# Altium integrated library INDUCTOR-5.0mmX4.5mm.IntLib: 115 symbols (part 1 of 2)
Pins are listed as number, name and electrical type; pins without a type are passive.

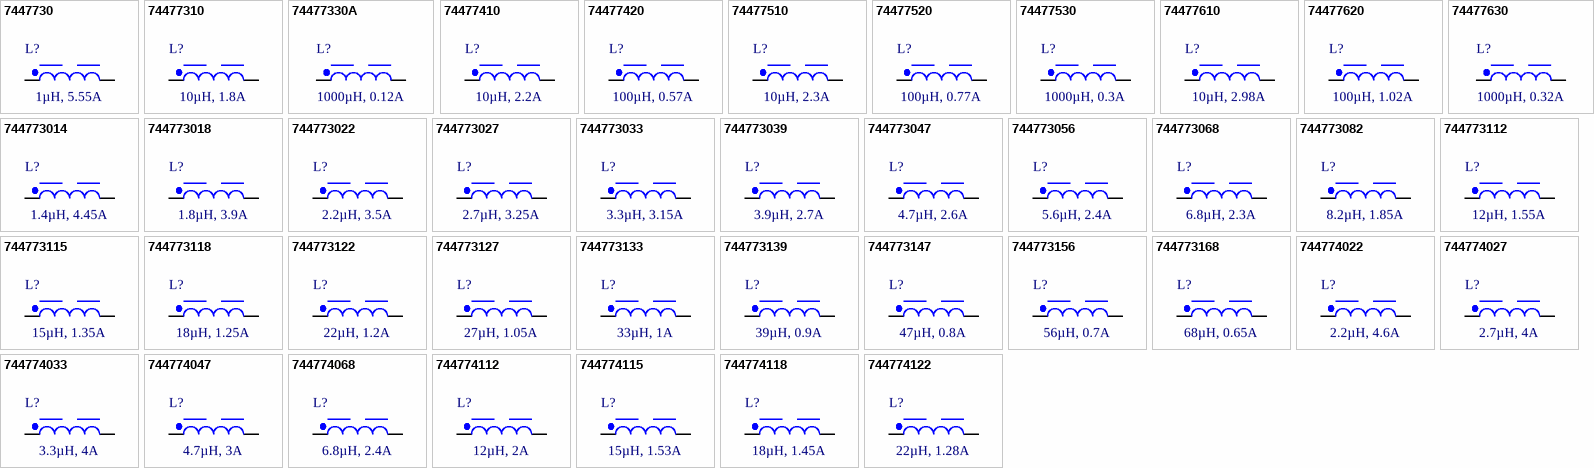
[diagram p0: symbols 7447730 to 744774122]

## 7447730
designator L?, comment 1µH, 5.55A
WE-PD2 SMT Power Inductor, size 4532, 1µH, 5.55A, 0.014Ω; Manufacturer Part Number: 7447730; Manufacturer: Wurth Elektronik; Case/Size Code: 4532; Saturation Current @ 10%: 5.72A; Saturation Current @ 30%: 6.6A; Self Resonant Frequency: 110MHz; Category: Power Inductors; Match Code: WE-PD2; ComponentLink1Description: Website Link; ComponentLink1URL: https://www.we-online.com/redexpert/article/7447730?ad; ComponentLink2Description: Datasheet Link; ComponentLink2URL: https://www.we-online.com/redexpert/spec/7447730?ad; Mount: Surface Mount; Min Operating Temperature: -40°C; Max Operating Temperature: 125°C; Packaging: Tape and Reel; Length: 4.5mm; Width: 4mm; Height: 3.2mm; DC Resistance Max: 0.014Ω; Inductance: 1µH; Rated Current: 5.55A
footprint WE-PD2_4532
simulation model 4532_7447730_1u
pins: 1, 2

## 74477310
designator L?, comment 10µH, 1.8A
WE-PD2 SMT Power Inductor, size 4532, 10µH, 1.8A, 0.118Ω; Manufacturer Part Number: 74477310; Manufacturer: Wurth Elektronik; Case/Size Code: 4532; Saturation Current @ 10%: 1.74A; Saturation Current @ 30%: 2A; Self Resonant Frequency: 37MHz; Category: Power Inductors; Match Code: WE-PD2; ComponentLink1Description: Website Link; ComponentLink1URL: https://www.we-online.com/redexpert/article/74477310?ad; ComponentLink2Description: Datasheet Link; ComponentLink2URL: https://www.we-online.com/redexpert/spec/74477310?ad; Mount: Surface Mount; Min Operating Temperature: -40°C; Max Operating Temperature: 125°C; Packaging: Tape and Reel; Length: 4.5mm; Width: 4mm; Height: 3.2mm; DC Resistance Max: 0.118Ω; Inductance: 10µH; Rated Current: 1.8A
footprint WE-PD2_4532
simulation model 4532_74477310_10u
pins: 1, 2

## 74477330A
designator L?, comment 1000µH, 0.12A
WE-PD2 SMT Power Inductor, size 4532, 1000µH, 0.12A, 12.5Ω; Manufacturer Part Number: 74477330A; Manufacturer: Wurth Elektronik; Case/Size Code: 4532; Saturation Current @ 10%: 0.18A; Self Resonant Frequency: 3.5MHz; Category: Power Inductors; Match Code: WE-PD2; ComponentLink1Description: Website Link; ComponentLink1URL: https://www.we-online.com/redexpert/article/74477330A?ad; ComponentLink2Description: Datasheet Link; ComponentLink2URL: https://www.we-online.com/redexpert/spec/74477330A?ad; Mount: Surface Mount; Min Operating Temperature: -40°C; Max Operating Temperature: 125°C; Packaging: Tape and Reel; Length: 4.5mm; Width: 4mm; Height: 3.2mm; DC Resistance Max: 12.5Ω; Inductance: 1000µH; Rated Current: 0.12A
footprint WE-PD2_4532
simulation model 4532_74477330A_1000u
pins: 1, 2

## 74477410
designator L?, comment 10µH, 2.2A
WE-PD2 SMT Power Inductor, size 5848, 10µH, 2.2A, 0.078Ω; Manufacturer Part Number: 74477410; Manufacturer: Wurth Elektronik; Case/Size Code: 5848; Saturation Current @ 10%: 2.5A; Self Resonant Frequency: 26MHz; Category: Power Inductors; Match Code: WE-PD2; ComponentLink1Description: Website Link; ComponentLink1URL: https://www.we-online.com/redexpert/article/74477410?ad; ComponentLink2Description: Datasheet Link; ComponentLink2URL: https://www.we-online.com/redexpert/spec/74477410?ad; Mount: Surface Mount; Min Operating Temperature: -40°C; Max Operating Temperature: 125°C; Packaging: Tape and Reel; Length: 5.8mm; Width: 5.2mm; Height: 4.5mm; DC Resistance Max: 0.078Ω; Inductance: 10µH; Rated Current: 2.2A
footprint WE-PD2_5848
simulation model 5848_74477410_10u
pins: 1, 2

## 74477420
designator L?, comment 100µH, 0.57A
WE-PD2 SMT Power Inductor, size 5848, 100µH, 0.57A, 0.51Ω; Manufacturer Part Number: 74477420; Manufacturer: Wurth Elektronik; Case/Size Code: 5848; Saturation Current @ 10%: 0.68A; Self Resonant Frequency: 7.5MHz; Category: Power Inductors; Match Code: WE-PD2; ComponentLink1Description: Website Link; ComponentLink1URL: https://www.we-online.com/redexpert/article/74477420?ad; ComponentLink2Description: Datasheet Link; ComponentLink2URL: https://www.we-online.com/redexpert/spec/74477420?ad; Mount: Surface Mount; Min Operating Temperature: -40°C; Max Operating Temperature: 125°C; Packaging: Tape and Reel; Length: 5.8mm; Width: 5.2mm; Height: 4.5mm; DC Resistance Max: 0.51Ω; Inductance: 100µH; Rated Current: 0.57A
footprint WE-PD2_5848
simulation model 5848_74477420_100u
pins: 1, 2

## 74477510
designator L?, comment 10µH, 2.3A
WE-PD2 SMT Power Inductor, size 7850, 10µH, 2.3A, 0.044Ω; Manufacturer Part Number: 74477510; Manufacturer: Wurth Elektronik; Case/Size Code: 7850; Saturation Current @ 10%: 2.95A; Self Resonant Frequency: 28MHz; Category: Power Inductors; Match Code: WE-PD2; ComponentLink1Description: Website Link; ComponentLink1URL: https://www.we-online.com/redexpert/article/74477510?ad; ComponentLink2Description: Datasheet Link; ComponentLink2URL: https://www.we-online.com/redexpert/spec/74477510?ad; Mount: Surface Mount; Min Operating Temperature: -40°C; Max Operating Temperature: 125°C; Packaging: Tape and Reel; Length: 7.8mm; Width: 7mm; Height: 4.95mm; DC Resistance Max: 0.044Ω; Inductance: 10µH; Rated Current: 2.3A
footprint WE-PD2_7850
simulation model 7850_74477510_10u
pins: 1, 2

## 74477520
designator L?, comment 100µH, 0.77A
WE-PD2 SMT Power Inductor, size 7850, 100µH, 0.77A, 0.208Ω; Manufacturer Part Number: 74477520; Manufacturer: Wurth Elektronik; Case/Size Code: 7850; Saturation Current @ 10%: 0.86A; Self Resonant Frequency: 8MHz; Category: Power Inductors; Match Code: WE-PD2; ComponentLink1Description: Website Link; ComponentLink1URL: https://www.we-online.com/redexpert/article/74477520?ad; ComponentLink2Description: Datasheet Link; ComponentLink2URL: https://www.we-online.com/redexpert/spec/74477520?ad; Mount: Surface Mount; Min Operating Temperature: -40°C; Max Operating Temperature: 125°C; Packaging: Tape and Reel; Length: 7.8mm; Width: 7mm; Height: 4.95mm; DC Resistance Max: 0.208Ω; Inductance: 100µH; Rated Current: 0.77A
footprint WE-PD2_7850
simulation model 7850_74477520_100u
pins: 1, 2

## 74477530
designator L?, comment 1000µH, 0.3A
WE-PD2 SMT Power Inductor, size 7850, 1000µH, 0.3A, 2.78Ω; Manufacturer Part Number: 74477530; Manufacturer: Wurth Elektronik; Case/Size Code: 7850; Self Resonant Frequency: 2.4MHz; Category: Power Inductors; Match Code: WE-PD2; ComponentLink1Description: Website Link; ComponentLink1URL: https://www.we-online.com/redexpert/article/74477530?ad; ComponentLink2Description: Datasheet Link; ComponentLink2URL: https://www.we-online.com/redexpert/spec/74477530?ad; Mount: Surface Mount; Min Operating Temperature: -40°C; Max Operating Temperature: 125°C; Packaging: Tape and Reel; Length: 7.8mm; Width: 7mm; Height: 4.95mm; DC Resistance Max: 2.78Ω; Inductance: 1000µH; Rated Current: 0.3A; Saturation Current @ 10%: 0.3A
footprint WE-PD2_7850
simulation model 7850_74477530_1m
pins: 1, 2

## 74477610
designator L?, comment 10µH, 2.98A
WE-PD2 SMT Power Inductor, size 1054, 10µH, 2.98A, 0.028Ω; Manufacturer Part Number: 74477610; Manufacturer: Wurth Elektronik; Case/Size Code: 1054; Saturation Current @ 10%: 3.24A; Self Resonant Frequency: 24MHz; Category: Power Inductors; Match Code: WE-PD2; ComponentLink1Description: Website Link; ComponentLink1URL: https://www.we-online.com/redexpert/article/74477610?ad; ComponentLink2Description: Datasheet Link; ComponentLink2URL: https://www.we-online.com/redexpert/spec/74477610?ad; Mount: Surface Mount; Min Operating Temperature: -40°C; Max Operating Temperature: 125°C; Packaging: Tape and Reel; Length: 10mm; Width: 9mm; Height: 5.4mm; DC Resistance Max: 0.028Ω; Inductance: 10µH; Rated Current: 2.98A
footprint WE-PD2_1054
simulation model 1054_74477610_10u
pins: 1, 2

## 74477620
designator L?, comment 100µH, 1.02A
WE-PD2 SMT Power Inductor, size 1054, 100µH, 1.02A, 0.2Ω; Manufacturer Part Number: 74477620; Manufacturer: Wurth Elektronik; Case/Size Code: 1054; Saturation Current @ 10%: 1.1A; Self Resonant Frequency: 7.5MHz; Category: Power Inductors; Match Code: WE-PD2; ComponentLink1Description: Website Link; ComponentLink1URL: https://www.we-online.com/redexpert/article/74477620?ad; ComponentLink2Description: Datasheet Link; ComponentLink2URL: https://www.we-online.com/redexpert/spec/74477620?ad; Mount: Surface Mount; Min Operating Temperature: -40°C; Max Operating Temperature: 125°C; Packaging: Tape and Reel; Length: 10mm; Width: 9mm; Height: 5.4mm; DC Resistance Max: 0.2Ω; Inductance: 100µH; Rated Current: 1.02A
footprint WE-PD2_1054
simulation model 1054_74477620_100u
pins: 1, 2

## 74477630
designator L?, comment 1000µH, 0.32A
WE-PD2 SMT Power Inductor, size 1054, 1000µH, 0.32A, 2.2Ω; Manufacturer Part Number: 74477630; Manufacturer: Wurth Elektronik; Case/Size Code: 1054; Saturation Current @ 10%: 0.38A; Self Resonant Frequency: 2.3MHz; Category: Power Inductors; Match Code: WE-PD2; ComponentLink1Description: Website Link; ComponentLink1URL: https://www.we-online.com/redexpert/article/74477630?ad; ComponentLink2Description: Datasheet Link; ComponentLink2URL: https://www.we-online.com/redexpert/spec/74477630?ad; Mount: Surface Mount; Min Operating Temperature: -40°C; Max Operating Temperature: 125°C; Packaging: Tape and Reel; Length: 10mm; Width: 9mm; Height: 5.4mm; DC Resistance Max: 2.2Ω; Inductance: 1000µH; Rated Current: 0.32A
footprint WE-PD2_1054
simulation model 1054_74477630_1m
pins: 1, 2

## 744773014
designator L?, comment 1.4µH, 4.45A
WE-PD2 SMT Power Inductor, size 4532, 1.4µH, 4.45A, 0.022Ω; Manufacturer Part Number: 744773014; Manufacturer: Wurth Elektronik; Case/Size Code: 4532; Saturation Current @ 10%: 5.04A; Saturation Current @ 30%: 5.8A; Self Resonant Frequency: 103MHz; Category: Power Inductors; Match Code: WE-PD2; ComponentLink1Description: Website Link; ComponentLink1URL: https://www.we-online.com/redexpert/article/744773014?ad; ComponentLink2Description: Datasheet Link; ComponentLink2URL: https://www.we-online.com/redexpert/spec/744773014?ad; Mount: Surface Mount; Min Operating Temperature: -40°C; Max Operating Temperature: 125°C; Packaging: Tape and Reel; Length: 4.5mm; Width: 4mm; Height: 3.2mm; DC Resistance Max: 0.022Ω; Inductance: 1.4µH; Rated Current: 4.45A
footprint WE-PD2_4532
simulation model 4532_744773014_1.4u
pins: 1, 2

## 744773018
designator L?, comment 1.8µH, 3.9A
WE-PD2 SMT Power Inductor, size 4532, 1.8µH, 3.9A, 0.028Ω; Manufacturer Part Number: 744773018; Manufacturer: Wurth Elektronik; Case/Size Code: 4532; Saturation Current @ 10%: 4.4A; Saturation Current @ 30%: 5.1A; Self Resonant Frequency: 95MHz; Category: Power Inductors; Match Code: WE-PD2; ComponentLink1Description: Website Link; ComponentLink1URL: https://www.we-online.com/redexpert/article/744773018?ad; ComponentLink2Description: Datasheet Link; ComponentLink2URL: https://www.we-online.com/redexpert/spec/744773018?ad; Mount: Surface Mount; Min Operating Temperature: -40°C; Max Operating Temperature: 125°C; Packaging: Tape and Reel; Length: 4.5mm; Width: 4mm; Height: 3.2mm; DC Resistance Max: 0.028Ω; Inductance: 1.8µH; Rated Current: 3.9A
footprint WE-PD2_4532
simulation model 4532_744773018_1.8u
pins: 1, 2

## 744773022
designator L?, comment 2.2µH, 3.5A
WE-PD2 SMT Power Inductor, size 4532, 2.2µH, 3.5A, 0.034Ω; Manufacturer Part Number: 744773022; Manufacturer: Wurth Elektronik; Case/Size Code: 4532; Saturation Current @ 10%: 4.1A; Saturation Current @ 30%: 4.7A; Self Resonant Frequency: 85MHz; Category: Power Inductors; Match Code: WE-PD2; ComponentLink1Description: Website Link; ComponentLink1URL: https://www.we-online.com/redexpert/article/744773022?ad; ComponentLink2Description: Datasheet Link; ComponentLink2URL: https://www.we-online.com/redexpert/spec/744773022?ad; Mount: Surface Mount; Min Operating Temperature: -40°C; Max Operating Temperature: 125°C; Packaging: Tape and Reel; Length: 4.5mm; Width: 4mm; Height: 3.2mm; DC Resistance Max: 0.034Ω; Inductance: 2.2µH; Rated Current: 3.5A
footprint WE-PD2_4532
simulation model 4532_744773022_2.2u
pins: 1, 2

## 744773027
designator L?, comment 2.7µH, 3.25A
WE-PD2 SMT Power Inductor, size 4532, 2.7µH, 3.25A, 0.039Ω; Manufacturer Part Number: 744773027; Manufacturer: Wurth Elektronik; Case/Size Code: 4532; Saturation Current @ 10%: 3.5A; Saturation Current @ 30%: 4.05A; Self Resonant Frequency: 72MHz; Category: Power Inductors; Match Code: WE-PD2; ComponentLink1Description: Website Link; ComponentLink1URL: https://www.we-online.com/redexpert/article/744773027?ad; ComponentLink2Description: Datasheet Link; ComponentLink2URL: https://www.we-online.com/redexpert/spec/744773027?ad; Mount: Surface Mount; Min Operating Temperature: -40°C; Max Operating Temperature: 125°C; Packaging: Tape and Reel; Length: 4.5mm; Width: 4mm; Height: 3.2mm; DC Resistance Max: 0.039Ω; Inductance: 2.7µH; Rated Current: 3.25A
footprint WE-PD2_4532
simulation model 4532_744773027_2.7u
pins: 1, 2

## 744773033
designator L?, comment 3.3µH, 3.15A
WE-PD2 SMT Power Inductor, size 4532, 3.3µH, 3.15A, 0.041Ω; Manufacturer Part Number: 744773033; Manufacturer: Wurth Elektronik; Case/Size Code: 4532; Saturation Current @ 10%: 3.3A; Saturation Current @ 30%: 3.8A; Self Resonant Frequency: 65MHz; Category: Power Inductors; Match Code: WE-PD2; ComponentLink1Description: Website Link; ComponentLink1URL: https://www.we-online.com/redexpert/article/744773033?ad; ComponentLink2Description: Datasheet Link; ComponentLink2URL: https://www.we-online.com/redexpert/spec/744773033?ad; Mount: Surface Mount; Min Operating Temperature: -40°C; Max Operating Temperature: 125°C; Packaging: Tape and Reel; Length: 4.5mm; Width: 4mm; Height: 3.2mm; DC Resistance Max: 0.041Ω; Inductance: 3.3µH; Rated Current: 3.15A
footprint WE-PD2_4532
simulation model 4532_744773033_3.3u
pins: 1, 2

## 744773039
designator L?, comment 3.9µH, 2.7A
WE-PD2 SMT Power Inductor, size 4532, 3.9µH, 2.7A, 0.054Ω; Manufacturer Part Number: 744773039; Manufacturer: Wurth Elektronik; Case/Size Code: 4532; Saturation Current @ 10%: 3.1A; Saturation Current @ 30%: 3.55A; Self Resonant Frequency: 61MHz; Category: Power Inductors; Match Code: WE-PD2; ComponentLink1Description: Website Link; ComponentLink1URL: https://www.we-online.com/redexpert/article/744773039?ad; ComponentLink2Description: Datasheet Link; ComponentLink2URL: https://www.we-online.com/redexpert/spec/744773039?ad; Mount: Surface Mount; Min Operating Temperature: -40°C; Max Operating Temperature: 125°C; Packaging: Tape and Reel; Length: 4.5mm; Width: 4mm; Height: 3.2mm; DC Resistance Max: 0.054Ω; Inductance: 3.9µH; Rated Current: 2.7A
footprint WE-PD2_4532
simulation model 4532_744773039_3.9u
pins: 1, 2

## 744773047
designator L?, comment 4.7µH, 2.6A
WE-PD2 SMT Power Inductor, size 4532, 4.7µH, 2.6A, 0.059Ω; Manufacturer Part Number: 744773047; Manufacturer: Wurth Elektronik; Case/Size Code: 4532; Saturation Current @ 10%: 2.9A; Saturation Current @ 30%: 3.3A; Self Resonant Frequency: 50MHz; Category: Power Inductors; Match Code: WE-PD2; ComponentLink1Description: Website Link; ComponentLink1URL: https://www.we-online.com/redexpert/article/744773047?ad; ComponentLink2Description: Datasheet Link; ComponentLink2URL: https://www.we-online.com/redexpert/spec/744773047?ad; Mount: Surface Mount; Min Operating Temperature: -40°C; Max Operating Temperature: 125°C; Packaging: Tape and Reel; Length: 4.5mm; Width: 4mm; Height: 3.2mm; DC Resistance Max: 0.059Ω; Inductance: 4.7µH; Rated Current: 2.6A
footprint WE-PD2_4532
simulation model 4532_744773047_4.7u
pins: 1, 2

## 744773056
designator L?, comment 5.6µH, 2.4A
WE-PD2 SMT Power Inductor, size 4532, 5.6µH, 2.4A, 0.069Ω; Manufacturer Part Number: 744773056; Manufacturer: Wurth Elektronik; Case/Size Code: 4532; Saturation Current @ 10%: 2.43A; Saturation Current @ 30%: 2.8A; Self Resonant Frequency: 48MHz; Category: Power Inductors; Match Code: WE-PD2; ComponentLink1Description: Website Link; ComponentLink1URL: https://www.we-online.com/redexpert/article/744773056?ad; ComponentLink2Description: Datasheet Link; ComponentLink2URL: https://www.we-online.com/redexpert/spec/744773056?ad; Mount: Surface Mount; Min Operating Temperature: -40°C; Max Operating Temperature: 125°C; Packaging: Tape and Reel; Length: 4.5mm; Width: 4mm; Height: 3.2mm; DC Resistance Max: 0.069Ω; Inductance: 5.6µH; Rated Current: 2.4A
footprint WE-PD2_4532
simulation model 4532_744773056_5.6u
pins: 1, 2

## 744773068
designator L?, comment 6.8µH, 2.3A
WE-PD2 SMT Power Inductor, size 4532, 6.8µH, 2.3A, 0.076Ω; Manufacturer Part Number: 744773068; Manufacturer: Wurth Elektronik; Case/Size Code: 4532; Saturation Current @ 10%: 2.1A; Saturation Current @ 30%: 2.4A; Self Resonant Frequency: 41MHz; Category: Power Inductors; Match Code: WE-PD2; ComponentLink1Description: Website Link; ComponentLink1URL: https://www.we-online.com/redexpert/article/744773068?ad; ComponentLink2Description: Datasheet Link; ComponentLink2URL: https://www.we-online.com/redexpert/spec/744773068?ad; Mount: Surface Mount; Min Operating Temperature: -40°C; Max Operating Temperature: 125°C; Packaging: Tape and Reel; Length: 4.5mm; Width: 4mm; Height: 3.2mm; DC Resistance Max: 0.076Ω; Inductance: 6.8µH; Rated Current: 2.3A
footprint WE-PD2_4532
simulation model 4532_744773068_6.8u
pins: 1, 2

## 744773082
designator L?, comment 8.2µH, 1.85A
WE-PD2 SMT Power Inductor, size 4532, 8.2µH, 1.85A, 0.116Ω; Manufacturer Part Number: 744773082; Manufacturer: Wurth Elektronik; Case/Size Code: 4532; Saturation Current @ 10%: 1.8A; Saturation Current @ 30%: 2.08A; Self Resonant Frequency: 38MHz; Category: Power Inductors; Match Code: WE-PD2; ComponentLink1Description: Website Link; ComponentLink1URL: https://www.we-online.com/redexpert/article/744773082?ad; ComponentLink2Description: Datasheet Link; ComponentLink2URL: https://www.we-online.com/redexpert/spec/744773082?ad; Mount: Surface Mount; Min Operating Temperature: -40°C; Max Operating Temperature: 125°C; Packaging: Tape and Reel; Length: 4.5mm; Width: 4mm; Height: 3.2mm; DC Resistance Max: 0.116Ω; Inductance: 8.2µH; Rated Current: 1.85A
footprint WE-PD2_4532
simulation model 4532_744773082_8.2u
pins: 1, 2

## 744773112
designator L?, comment 12µH, 1.55A
WE-PD2 SMT Power Inductor, size 4532, 12µH, 1.55A, 0.156Ω; Manufacturer Part Number: 744773112; Manufacturer: Wurth Elektronik; Case/Size Code: 4532; Saturation Current @ 10%: 1.62A; Saturation Current @ 30%: 1.85A; Self Resonant Frequency: 32MHz; Category: Power Inductors; Match Code: WE-PD2; ComponentLink1Description: Website Link; ComponentLink1URL: https://www.we-online.com/redexpert/article/744773112?ad; ComponentLink2Description: Datasheet Link; ComponentLink2URL: https://www.we-online.com/redexpert/spec/744773112?ad; Mount: Surface Mount; Min Operating Temperature: -40°C; Max Operating Temperature: 125°C; Packaging: Tape and Reel; Length: 4.5mm; Width: 4mm; Height: 3.2mm; DC Resistance Max: 0.156Ω; Inductance: 12µH; Rated Current: 1.55A
footprint WE-PD2_4532
simulation model 4532_744773112_12u
pins: 1, 2

## 744773115
designator L?, comment 15µH, 1.35A
WE-PD2 SMT Power Inductor, size 4532, 15µH, 1.35A, 0.204Ω; Manufacturer Part Number: 744773115; Manufacturer: Wurth Elektronik; Case/Size Code: 4532; Saturation Current @ 10%: 1.46A; Saturation Current @ 30%: 1.65A; Self Resonant Frequency: 26MHz; Category: Power Inductors; Match Code: WE-PD2; ComponentLink1Description: Website Link; ComponentLink1URL: https://www.we-online.com/redexpert/article/744773115?ad; ComponentLink2Description: Datasheet Link; ComponentLink2URL: https://www.we-online.com/redexpert/spec/744773115?ad; Mount: Surface Mount; Min Operating Temperature: -40°C; Max Operating Temperature: 125°C; Packaging: Tape and Reel; Length: 4.5mm; Width: 4mm; Height: 3.2mm; DC Resistance Max: 0.204Ω; Inductance: 15µH; Rated Current: 1.35A
footprint WE-PD2_4532
simulation model 4532_744773115_15u
pins: 1, 2

## 744773118
designator L?, comment 18µH, 1.25A
WE-PD2 SMT Power Inductor, size 4532, 18µH, 1.25A, 0.225Ω; Manufacturer Part Number: 744773118; Manufacturer: Wurth Elektronik; Case/Size Code: 4532; Saturation Current @ 10%: 1.29A; Saturation Current @ 30%: 1.49A; Self Resonant Frequency: 23MHz; Category: Power Inductors; Match Code: WE-PD2; ComponentLink1Description: Website Link; ComponentLink1URL: https://www.we-online.com/redexpert/article/744773118?ad; ComponentLink2Description: Datasheet Link; ComponentLink2URL: https://www.we-online.com/redexpert/spec/744773118?ad; Mount: Surface Mount; Min Operating Temperature: -40°C; Max Operating Temperature: 125°C; Packaging: Tape and Reel; Length: 4.5mm; Width: 4mm; Height: 3.2mm; DC Resistance Max: 0.225Ω; Inductance: 18µH; Rated Current: 1.25A
footprint WE-PD2_4532
simulation model 4532_744773118_18u
pins: 1, 2

## 744773122
designator L?, comment 22µH, 1.2A
WE-PD2 SMT Power Inductor, size 4532, 22µH, 1.2A, 0.261Ω; Manufacturer Part Number: 744773122; Manufacturer: Wurth Elektronik; Case/Size Code: 4532; Saturation Current @ 10%: 1.22A; Saturation Current @ 30%: 1.42A; Self Resonant Frequency: 20MHz; Category: Power Inductors; Match Code: WE-PD2; ComponentLink1Description: Website Link; ComponentLink1URL: https://www.we-online.com/redexpert/article/744773122?ad; ComponentLink2Description: Datasheet Link; ComponentLink2URL: https://www.we-online.com/redexpert/spec/744773122?ad; Mount: Surface Mount; Min Operating Temperature: -40°C; Max Operating Temperature: 125°C; Packaging: Tape and Reel; Length: 4.5mm; Width: 4mm; Height: 3.2mm; DC Resistance Max: 0.261Ω; Inductance: 22µH; Rated Current: 1.2A
footprint WE-PD2_4532
simulation model 4532_744773122_22u
pins: 1, 2

## 744773127
designator L?, comment 27µH, 1.05A
WE-PD2 SMT Power Inductor, size 4532, 27µH, 1.05A, 0.328Ω; Manufacturer Part Number: 744773127; Manufacturer: Wurth Elektronik; Case/Size Code: 4532; Saturation Current @ 10%: 1.15A; Saturation Current @ 30%: 1.32A; Self Resonant Frequency: 21MHz; Category: Power Inductors; Match Code: WE-PD2; ComponentLink1Description: Website Link; ComponentLink1URL: https://www.we-online.com/redexpert/article/744773127?ad; ComponentLink2Description: Datasheet Link; ComponentLink2URL: https://www.we-online.com/redexpert/spec/744773127?ad; Mount: Surface Mount; Min Operating Temperature: -40°C; Max Operating Temperature: 125°C; Packaging: Tape and Reel; Length: 4.5mm; Width: 4mm; Height: 3.2mm; DC Resistance Max: 0.328Ω; Inductance: 27µH; Rated Current: 1.05A
footprint WE-PD2_4532
simulation model 4532_744773127_27u
pins: 1, 2

## 744773133
designator L?, comment 33µH, 1A
WE-PD2 SMT Power Inductor, size 4532, 33µH, 1A, 0.37Ω; Manufacturer Part Number: 744773133; Manufacturer: Wurth Elektronik; Case/Size Code: 4532; Saturation Current @ 10%: 1.1A; Saturation Current @ 30%: 1.26A; Self Resonant Frequency: 20MHz; Category: Power Inductors; Match Code: WE-PD2; ComponentLink1Description: Website Link; ComponentLink1URL: https://www.we-online.com/redexpert/article/744773133?ad; ComponentLink2Description: Datasheet Link; ComponentLink2URL: https://www.we-online.com/redexpert/spec/744773133?ad; Mount: Surface Mount; Min Operating Temperature: -40°C; Max Operating Temperature: 125°C; Packaging: Tape and Reel; Length: 4.5mm; Width: 4mm; Height: 3.2mm; DC Resistance Max: 0.37Ω; Inductance: 33µH; Rated Current: 1A
footprint WE-PD2_4532
simulation model 4532_744773133_33u
pins: 1, 2

## 744773139
designator L?, comment 39µH, 0.9A
WE-PD2 SMT Power Inductor, size 4532, 39µH, 0.9A, 0.418Ω; Manufacturer Part Number: 744773139; Manufacturer: Wurth Elektronik; Case/Size Code: 4532; Saturation Current @ 10%: 0.95A; Saturation Current @ 30%: 1.1A; Self Resonant Frequency: 15MHz; Category: Power Inductors; Match Code: WE-PD2; ComponentLink1Description: Website Link; ComponentLink1URL: https://www.we-online.com/redexpert/article/744773139?ad; ComponentLink2Description: Datasheet Link; ComponentLink2URL: https://www.we-online.com/redexpert/spec/744773139?ad; Mount: Surface Mount; Min Operating Temperature: -40°C; Max Operating Temperature: 125°C; Packaging: Tape and Reel; Length: 4.5mm; Width: 4mm; Height: 3.2mm; DC Resistance Max: 0.418Ω; Inductance: 39µH; Rated Current: 0.9A
footprint WE-PD2_4532
simulation model 4532_744773139_39u
pins: 1, 2

## 744773147
designator L?, comment 47µH, 0.8A
WE-PD2 SMT Power Inductor, size 4532, 47µH, 0.8A, 0.523Ω; Manufacturer Part Number: 744773147; Manufacturer: Wurth Elektronik; Case/Size Code: 4532; Saturation Current @ 10%: 0.85A; Saturation Current @ 30%: 0.98A; Self Resonant Frequency: 17MHz; Category: Power Inductors; Match Code: WE-PD2; ComponentLink1Description: Website Link; ComponentLink1URL: https://www.we-online.com/redexpert/article/744773147?ad; ComponentLink2Description: Datasheet Link; ComponentLink2URL: https://www.we-online.com/redexpert/spec/744773147?ad; Mount: Surface Mount; Min Operating Temperature: -40°C; Max Operating Temperature: 125°C; Packaging: Tape and Reel; Length: 4.5mm; Width: 4mm; Height: 3.2mm; DC Resistance Max: 0.523Ω; Inductance: 47µH; Rated Current: 0.8A
footprint WE-PD2_4532
simulation model 4532_744773147_47u
pins: 1, 2

## 744773156
designator L?, comment 56µH, 0.7A
WE-PD2 SMT Power Inductor, size 4532, 56µH, 0.7A, 0.714Ω; Manufacturer Part Number: 744773156; Manufacturer: Wurth Elektronik; Case/Size Code: 4532; Saturation Current @ 10%: 0.82A; Saturation Current @ 30%: 0.94A; Self Resonant Frequency: 16MHz; Category: Power Inductors; Match Code: WE-PD2; ComponentLink1Description: Website Link; ComponentLink1URL: https://www.we-online.com/redexpert/article/744773156?ad; ComponentLink2Description: Datasheet Link; ComponentLink2URL: https://www.we-online.com/redexpert/spec/744773156?ad; Mount: Surface Mount; Min Operating Temperature: -40°C; Max Operating Temperature: 125°C; Packaging: Tape and Reel; Length: 4.5mm; Width: 4mm; Height: 3.2mm; DC Resistance Max: 0.714Ω; Inductance: 56µH; Rated Current: 0.7A
footprint WE-PD2_4532
simulation model 4532_744773156_56u
pins: 1, 2

## 744773168
designator L?, comment 68µH, 0.65A
WE-PD2 SMT Power Inductor, size 4532, 68µH, 0.65A, 0.754Ω; Manufacturer Part Number: 744773168; Manufacturer: Wurth Elektronik; Case/Size Code: 4532; Saturation Current @ 10%: 0.75A; Saturation Current @ 30%: 0.86A; Self Resonant Frequency: 13MHz; Category: Power Inductors; Match Code: WE-PD2; ComponentLink1Description: Website Link; ComponentLink1URL: https://www.we-online.com/redexpert/article/744773168?ad; ComponentLink2Description: Datasheet Link; ComponentLink2URL: https://www.we-online.com/redexpert/spec/744773168?ad; Mount: Surface Mount; Min Operating Temperature: -40°C; Max Operating Temperature: 125°C; Packaging: Tape and Reel; Length: 4.5mm; Width: 4mm; Height: 3.2mm; DC Resistance Max: 0.754Ω; Inductance: 68µH; Rated Current: 0.65A
footprint WE-PD2_4532
simulation model 4532_744773168_68u
pins: 1, 2

## 744774022
designator L?, comment 2.2µH, 4.6A
WE-PD2 SMT Power Inductor, size 5848, 2.2µH, 4.6A, 0.026Ω; Manufacturer Part Number: 744774022; Manufacturer: Wurth Elektronik; Case/Size Code: 5848; Saturation Current @ 10%: 8.2A; Self Resonant Frequency: 54MHz; Category: Power Inductors; Match Code: WE-PD2; ComponentLink1Description: Website Link; ComponentLink1URL: https://www.we-online.com/redexpert/article/744774022?ad; ComponentLink2Description: Datasheet Link; ComponentLink2URL: https://www.we-online.com/redexpert/spec/744774022?ad; Mount: Surface Mount; Min Operating Temperature: -40°C; Max Operating Temperature: 125°C; Packaging: Tape and Reel; Length: 5.8mm; Width: 5.2mm; Height: 4.5mm; DC Resistance Max: 0.026Ω; Inductance: 2.2µH; Rated Current: 4.6A
footprint WE-PD2_5848
simulation model 5848_744774022_2.2u
pins: 1, 2

## 744774027
designator L?, comment 2.7µH, 4A
WE-PD2 SMT Power Inductor, size 5848, 2.7µH, 4A, 0.032Ω; Manufacturer Part Number: 744774027; Manufacturer: Wurth Elektronik; Case/Size Code: 5848; Saturation Current @ 10%: 8A; Self Resonant Frequency: 50MHz; Category: Power Inductors; Match Code: WE-PD2; ComponentLink1Description: Website Link; ComponentLink1URL: https://www.we-online.com/redexpert/article/744774027?ad; ComponentLink2Description: Datasheet Link; ComponentLink2URL: https://www.we-online.com/redexpert/spec/744774027?ad; Mount: Surface Mount; Min Operating Temperature: -40°C; Max Operating Temperature: 125°C; Packaging: Tape and Reel; Length: 5.8mm; Width: 5.2mm; Height: 4.5mm; DC Resistance Max: 0.032Ω; Inductance: 2.7µH; Rated Current: 4A
footprint WE-PD2_5848
simulation model 5848_744774027_2.7u
pins: 1, 2

## 744774033
designator L?, comment 3.3µH, 4A
WE-PD2 SMT Power Inductor, size 5848, 3.3µH, 4A, 0.042Ω; Manufacturer Part Number: 744774033; Manufacturer: Wurth Elektronik; Case/Size Code: 5848; Saturation Current @ 10%: 7.5A; Self Resonant Frequency: 43MHz; Category: Power Inductors; Match Code: WE-PD2; ComponentLink1Description: Website Link; ComponentLink1URL: https://www.we-online.com/redexpert/article/744774033?ad; ComponentLink2Description: Datasheet Link; ComponentLink2URL: https://www.we-online.com/redexpert/spec/744774033?ad; Mount: Surface Mount; Min Operating Temperature: -40°C; Max Operating Temperature: 125°C; Packaging: Tape and Reel; Length: 5.8mm; Width: 5.2mm; Height: 4.5mm; DC Resistance Max: 0.042Ω; Inductance: 3.3µH; Rated Current: 4A
footprint WE-PD2_5848
simulation model 5848_744774033_3.3u
pins: 1, 2

## 744774047
designator L?, comment 4.7µH, 3A
WE-PD2 SMT Power Inductor, size 5848, 4.7µH, 3A, 0.056Ω; Manufacturer Part Number: 744774047; Manufacturer: Wurth Elektronik; Case/Size Code: 5848; Saturation Current @ 10%: 5.5A; Self Resonant Frequency: 33MHz; Category: Power Inductors; Match Code: WE-PD2; ComponentLink1Description: Website Link; ComponentLink1URL: https://www.we-online.com/redexpert/article/744774047?ad; ComponentLink2Description: Datasheet Link; ComponentLink2URL: https://www.we-online.com/redexpert/spec/744774047?ad; Mount: Surface Mount; Min Operating Temperature: -40°C; Max Operating Temperature: 125°C; Packaging: Tape and Reel; Length: 5.8mm; Width: 5.2mm; Height: 4.5mm; DC Resistance Max: 0.056Ω; Inductance: 4.7µH; Rated Current: 3A
footprint WE-PD2_5848
simulation model 5848_744774047_4.7u
pins: 1, 2

## 744774068
designator L?, comment 6.8µH, 2.4A
WE-PD2 SMT Power Inductor, size 5848, 6.8µH, 2.4A, 0.071Ω; Manufacturer Part Number: 744774068; Manufacturer: Wurth Elektronik; Case/Size Code: 5848; Saturation Current @ 10%: 5A; Self Resonant Frequency: 28MHz; Category: Power Inductors; Match Code: WE-PD2; ComponentLink1Description: Website Link; ComponentLink1URL: https://www.we-online.com/redexpert/article/744774068?ad; ComponentLink2Description: Datasheet Link; ComponentLink2URL: https://www.we-online.com/redexpert/spec/744774068?ad; Mount: Surface Mount; Min Operating Temperature: -40°C; Max Operating Temperature: 125°C; Packaging: Tape and Reel; Length: 5.8mm; Width: 5.2mm; Height: 4.5mm; DC Resistance Max: 0.071Ω; Inductance: 6.8µH; Rated Current: 2.4A
footprint WE-PD2_5848
simulation model 5848_744774068_6.8u
pins: 1, 2

## 744774112
designator L?, comment 12µH, 2A
WE-PD2 SMT Power Inductor, size 5848, 12µH, 2A, 0.082Ω; Manufacturer Part Number: 744774112; Manufacturer: Wurth Elektronik; Case/Size Code: 5848; Saturation Current @ 10%: 1.94A; Self Resonant Frequency: 24MHz; Category: Power Inductors; Match Code: WE-PD2; ComponentLink1Description: Website Link; ComponentLink1URL: https://www.we-online.com/redexpert/article/744774112?ad; ComponentLink2Description: Datasheet Link; ComponentLink2URL: https://www.we-online.com/redexpert/spec/744774112?ad; Mount: Surface Mount; Min Operating Temperature: -40°C; Max Operating Temperature: 125°C; Packaging: Tape and Reel; Length: 5.8mm; Width: 5.2mm; Height: 4.5mm; DC Resistance Max: 0.082Ω; Inductance: 12µH; Rated Current: 2A
footprint WE-PD2_5848
simulation model 5848_744774112_12u
pins: 1, 2

## 744774115
designator L?, comment 15µH, 1.53A
WE-PD2 SMT Power Inductor, size 5848, 15µH, 1.53A, 0.089Ω; Manufacturer Part Number: 744774115; Manufacturer: Wurth Elektronik; Case/Size Code: 5848; Saturation Current @ 10%: 1.9A; Self Resonant Frequency: 23MHz; Category: Power Inductors; Match Code: WE-PD2; ComponentLink1Description: Website Link; ComponentLink1URL: https://www.we-online.com/redexpert/article/744774115?ad; ComponentLink2Description: Datasheet Link; ComponentLink2URL: https://www.we-online.com/redexpert/spec/744774115?ad; Mount: Surface Mount; Min Operating Temperature: -40°C; Max Operating Temperature: 125°C; Packaging: Tape and Reel; Length: 5.8mm; Width: 5.2mm; Height: 4.5mm; DC Resistance Max: 0.089Ω; Inductance: 15µH; Rated Current: 1.53A
footprint WE-PD2_5848
simulation model 5848_744774115_15u
pins: 1, 2

## 744774118
designator L?, comment 18µH, 1.45A
WE-PD2 SMT Power Inductor, size 5848, 18µH, 1.45A, 0.104Ω; Manufacturer Part Number: 744774118; Manufacturer: Wurth Elektronik; Case/Size Code: 5848; Saturation Current @ 10%: 1.69A; Self Resonant Frequency: 21MHz; Category: Power Inductors; Match Code: WE-PD2; ComponentLink1Description: Website Link; ComponentLink1URL: https://www.we-online.com/redexpert/article/744774118?ad; ComponentLink2Description: Datasheet Link; ComponentLink2URL: https://www.we-online.com/redexpert/spec/744774118?ad; Mount: Surface Mount; Min Operating Temperature: -40°C; Max Operating Temperature: 125°C; Packaging: Tape and Reel; Length: 5.8mm; Width: 5.2mm; Height: 4.5mm; DC Resistance Max: 0.104Ω; Inductance: 18µH; Rated Current: 1.45A
footprint WE-PD2_5848
simulation model 5848_744774118_18u
pins: 1, 2

## 744774122
designator L?, comment 22µH, 1.28A
WE-PD2 SMT Power Inductor, size 5848, 22µH, 1.28A, 0.109Ω; Manufacturer Part Number: 744774122; Manufacturer: Wurth Elektronik; Case/Size Code: 5848; Saturation Current @ 10%: 1.53A; Self Resonant Frequency: 16MHz; Category: Power Inductors; Match Code: WE-PD2; ComponentLink1Description: Website Link; ComponentLink1URL: https://www.we-online.com/redexpert/article/744774122?ad; ComponentLink2Description: Datasheet Link; ComponentLink2URL: https://www.we-online.com/redexpert/spec/744774122?ad; Mount: Surface Mount; Min Operating Temperature: -40°C; Max Operating Temperature: 125°C; Packaging: Tape and Reel; Length: 5.8mm; Width: 5.2mm; Height: 4.5mm; DC Resistance Max: 0.109Ω; Inductance: 22µH; Rated Current: 1.28A
footprint WE-PD2_5848
simulation model 5848_744774122_22u
pins: 1, 2

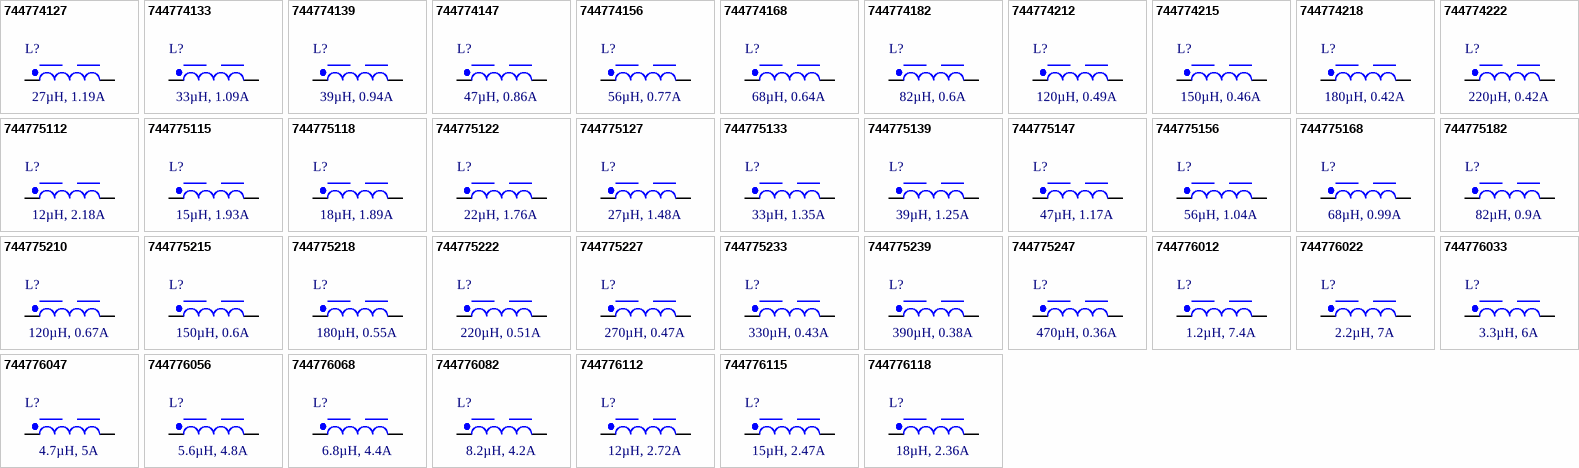
[diagram p1: symbols 744774127 to 744776118]

## 744774127
designator L?, comment 27µH, 1.19A
WE-PD2 SMT Power Inductor, size 5848, 27µH, 1.19A, 0.133Ω; Manufacturer Part Number: 744774127; Manufacturer: Wurth Elektronik; Case/Size Code: 5848; Saturation Current @ 10%: 1.4A; Self Resonant Frequency: 15MHz; Category: Power Inductors; Match Code: WE-PD2; ComponentLink1Description: Website Link; ComponentLink1URL: https://www.we-online.com/redexpert/article/744774127?ad; ComponentLink2Description: Datasheet Link; ComponentLink2URL: https://www.we-online.com/redexpert/spec/744774127?ad; Mount: Surface Mount; Min Operating Temperature: -40°C; Max Operating Temperature: 125°C; Packaging: Tape and Reel; Length: 5.8mm; Width: 5.2mm; Height: 4.5mm; DC Resistance Max: 0.133Ω; Inductance: 27µH; Rated Current: 1.19A
footprint WE-PD2_5848
simulation model 5848_744774127_27u
pins: 1, 2

## 744774133
designator L?, comment 33µH, 1.09A
WE-PD2 SMT Power Inductor, size 5848, 33µH, 1.09A, 0.15Ω; Manufacturer Part Number: 744774133; Manufacturer: Wurth Elektronik; Case/Size Code: 5848; Saturation Current @ 10%: 1.17A; Self Resonant Frequency: 14MHz; Category: Power Inductors; Match Code: WE-PD2; ComponentLink1Description: Website Link; ComponentLink1URL: https://www.we-online.com/redexpert/article/744774133?ad; ComponentLink2Description: Datasheet Link; ComponentLink2URL: https://www.we-online.com/redexpert/spec/744774133?ad; Mount: Surface Mount; Min Operating Temperature: -40°C; Max Operating Temperature: 125°C; Packaging: Tape and Reel; Length: 5.8mm; Width: 5.2mm; Height: 4.5mm; DC Resistance Max: 0.15Ω; Inductance: 33µH; Rated Current: 1.09A
footprint WE-PD2_5848
simulation model 5848_744774133_33u
pins: 1, 2

## 744774139
designator L?, comment 39µH, 0.94A
WE-PD2 SMT Power Inductor, size 5848, 39µH, 0.94A, 0.215Ω; Manufacturer Part Number: 744774139; Manufacturer: Wurth Elektronik; Case/Size Code: 5848; Saturation Current @ 10%: 1.1A; Self Resonant Frequency: 12MHz; Category: Power Inductors; Match Code: WE-PD2; ComponentLink1Description: Website Link; ComponentLink1URL: https://www.we-online.com/redexpert/article/744774139?ad; ComponentLink2Description: Datasheet Link; ComponentLink2URL: https://www.we-online.com/redexpert/spec/744774139?ad; Mount: Surface Mount; Min Operating Temperature: -40°C; Max Operating Temperature: 125°C; Packaging: Tape and Reel; Length: 5.8mm; Width: 5.2mm; Height: 4.5mm; DC Resistance Max: 0.215Ω; Inductance: 39µH; Rated Current: 0.94A
footprint WE-PD2_5848
simulation model 5848_744774139_39u
pins: 1, 2

## 744774147
designator L?, comment 47µH, 0.86A
WE-PD2 SMT Power Inductor, size 5848, 47µH, 0.86A, 0.26Ω; Manufacturer Part Number: 744774147; Manufacturer: Wurth Elektronik; Case/Size Code: 5848; Saturation Current @ 10%: 1A; Self Resonant Frequency: 11.5MHz; Category: Power Inductors; Match Code: WE-PD2; ComponentLink1Description: Website Link; ComponentLink1URL: https://www.we-online.com/redexpert/article/744774147?ad; ComponentLink2Description: Datasheet Link; ComponentLink2URL: https://www.we-online.com/redexpert/spec/744774147?ad; Mount: Surface Mount; Min Operating Temperature: -40°C; Max Operating Temperature: 125°C; Packaging: Tape and Reel; Length: 5.8mm; Width: 5.2mm; Height: 4.5mm; DC Resistance Max: 0.26Ω; Inductance: 47µH; Rated Current: 0.86A
footprint WE-PD2_5848
simulation model 5848_744774147_47u
pins: 1, 2

## 744774156
designator L?, comment 56µH, 0.77A
WE-PD2 SMT Power Inductor, size 5848, 56µH, 0.77A, 0.298Ω; Manufacturer Part Number: 744774156; Manufacturer: Wurth Elektronik; Case/Size Code: 5848; Saturation Current @ 10%: 0.9A; Self Resonant Frequency: 10MHz; Category: Power Inductors; Match Code: WE-PD2; ComponentLink1Description: Website Link; ComponentLink1URL: https://www.we-online.com/redexpert/article/744774156?ad; ComponentLink2Description: Datasheet Link; ComponentLink2URL: https://www.we-online.com/redexpert/spec/744774156?ad; Mount: Surface Mount; Min Operating Temperature: -40°C; Max Operating Temperature: 125°C; Packaging: Tape and Reel; Length: 5.8mm; Width: 5.2mm; Height: 4.5mm; DC Resistance Max: 0.298Ω; Inductance: 56µH; Rated Current: 0.77A
footprint WE-PD2_5848
simulation model 5848_744774156_56u
pins: 1, 2

## 744774168
designator L?, comment 68µH, 0.64A
WE-PD2 SMT Power Inductor, size 5848, 68µH, 0.64A, 0.313Ω; Manufacturer Part Number: 744774168; Manufacturer: Wurth Elektronik; Case/Size Code: 5848; Saturation Current @ 10%: 0.86A; Self Resonant Frequency: 10MHz; Category: Power Inductors; Match Code: WE-PD2; ComponentLink1Description: Website Link; ComponentLink1URL: https://www.we-online.com/redexpert/article/744774168?ad; ComponentLink2Description: Datasheet Link; ComponentLink2URL: https://www.we-online.com/redexpert/spec/744774168?ad; Mount: Surface Mount; Min Operating Temperature: -40°C; Max Operating Temperature: 125°C; Packaging: Tape and Reel; Length: 5.8mm; Width: 5.2mm; Height: 4.5mm; DC Resistance Max: 0.313Ω; Inductance: 68µH; Rated Current: 0.64A
footprint WE-PD2_5848
simulation model 5848_744774168_68u
pins: 1, 2

## 744774182
designator L?, comment 82µH, 0.6A
WE-PD2 SMT Power Inductor, size 5848, 82µH, 0.6A, 0.475Ω; Manufacturer Part Number: 744774182; Manufacturer: Wurth Elektronik; Case/Size Code: 5848; Saturation Current @ 10%: 0.72A; Self Resonant Frequency: 8MHz; Category: Power Inductors; Match Code: WE-PD2; ComponentLink1Description: Website Link; ComponentLink1URL: https://www.we-online.com/redexpert/article/744774182?ad; ComponentLink2Description: Datasheet Link; ComponentLink2URL: https://www.we-online.com/redexpert/spec/744774182?ad; Mount: Surface Mount; Min Operating Temperature: -40°C; Max Operating Temperature: 125°C; Packaging: Tape and Reel; Length: 5.8mm; Width: 5.2mm; Height: 4.5mm; DC Resistance Max: 0.475Ω; Inductance: 82µH; Rated Current: 0.6A
footprint WE-PD2_5848
simulation model 5848_744774182_82u
pins: 1, 2

## 744774212
designator L?, comment 120µH, 0.49A
WE-PD2 SMT Power Inductor, size 5848, 120µH, 0.49A, 0.66Ω; Manufacturer Part Number: 744774212; Manufacturer: Wurth Elektronik; Case/Size Code: 5848; Saturation Current @ 10%: 0.63A; Self Resonant Frequency: 7MHz; Category: Power Inductors; Match Code: WE-PD2; ComponentLink1Description: Website Link; ComponentLink1URL: https://www.we-online.com/redexpert/article/744774212?ad; ComponentLink2Description: Datasheet Link; ComponentLink2URL: https://www.we-online.com/redexpert/spec/744774212?ad; Mount: Surface Mount; Min Operating Temperature: -40°C; Max Operating Temperature: 125°C; Packaging: Tape and Reel; Length: 5.8mm; Width: 5.2mm; Height: 4.5mm; DC Resistance Max: 0.66Ω; Inductance: 120µH; Rated Current: 0.49A
footprint WE-PD2_5848
simulation model 5848_744774212_120u
pins: 1, 2

## 744774215
designator L?, comment 150µH, 0.46A
WE-PD2 SMT Power Inductor, size 5848, 150µH, 0.46A, 0.72Ω; Manufacturer Part Number: 744774215; Manufacturer: Wurth Elektronik; Case/Size Code: 5848; Saturation Current @ 10%: 0.54A; Self Resonant Frequency: 6.5MHz; Category: Power Inductors; Match Code: WE-PD2; ComponentLink1Description: Website Link; ComponentLink1URL: https://www.we-online.com/redexpert/article/744774215?ad; ComponentLink2Description: Datasheet Link; ComponentLink2URL: https://www.we-online.com/redexpert/spec/744774215?ad; Mount: Surface Mount; Min Operating Temperature: -40°C; Max Operating Temperature: 125°C; Packaging: Tape and Reel; Length: 5.8mm; Width: 5.2mm; Height: 4.5mm; DC Resistance Max: 0.72Ω; Inductance: 150µH; Rated Current: 0.46A
footprint WE-PD2_5848
simulation model 5848_744774215_150u
pins: 1, 2

## 744774218
designator L?, comment 180µH, 0.42A
WE-PD2 SMT Power Inductor, size 5848, 180µH, 0.42A, 0.85Ω; Manufacturer Part Number: 744774218; Manufacturer: Wurth Elektronik; Case/Size Code: 5848; Saturation Current @ 10%: 0.5A; Self Resonant Frequency: 5.8MHz; Category: Power Inductors; Match Code: WE-PD2; ComponentLink1Description: Website Link; ComponentLink1URL: https://www.we-online.com/redexpert/article/744774218?ad; ComponentLink2Description: Datasheet Link; ComponentLink2URL: https://www.we-online.com/redexpert/spec/744774218?ad; Mount: Surface Mount; Min Operating Temperature: -40°C; Max Operating Temperature: 125°C; Packaging: Tape and Reel; Length: 5.8mm; Width: 5.2mm; Height: 4.5mm; DC Resistance Max: 0.85Ω; Inductance: 180µH; Rated Current: 0.42A
footprint WE-PD2_5848
simulation model 5848_744774218_180u
pins: 1, 2

## 744774222
designator L?, comment 220µH, 0.42A
WE-PD2 SMT Power Inductor, size 5848, 220µH, 0.42A, 0.945Ω; Manufacturer Part Number: 744774222; Manufacturer: Wurth Elektronik; Case/Size Code: 5848; Saturation Current @ 10%: 0.47A; Self Resonant Frequency: 5MHz; Category: Power Inductors; Match Code: WE-PD2; ComponentLink1Description: Website Link; ComponentLink1URL: https://www.we-online.com/redexpert/article/744774222?ad; ComponentLink2Description: Datasheet Link; ComponentLink2URL: https://www.we-online.com/redexpert/spec/744774222?ad; Mount: Surface Mount; Min Operating Temperature: -40°C; Max Operating Temperature: 125°C; Packaging: Tape and Reel; Length: 5.8mm; Width: 5.2mm; Height: 4.5mm; DC Resistance Max: 0.945Ω; Inductance: 220µH; Rated Current: 0.42A
footprint WE-PD2_5848
simulation model 5848_744774222_220u
pins: 1, 2

## 744775112
designator L?, comment 12µH, 2.18A
WE-PD2 SMT Power Inductor, size 7850, 12µH, 2.18A, 0.042Ω; Manufacturer Part Number: 744775112; Manufacturer: Wurth Elektronik; Case/Size Code: 7850; Saturation Current @ 10%: 2.2A; Self Resonant Frequency: 26MHz; Category: Power Inductors; Match Code: WE-PD2; ComponentLink1Description: Website Link; ComponentLink1URL: https://www.we-online.com/redexpert/article/744775112?ad; ComponentLink2Description: Datasheet Link; ComponentLink2URL: https://www.we-online.com/redexpert/spec/744775112?ad; Mount: Surface Mount; Min Operating Temperature: -40°C; Max Operating Temperature: 125°C; Packaging: Tape and Reel; Length: 7.8mm; Width: 7mm; Height: 4.95mm; DC Resistance Max: 0.042Ω; Inductance: 12µH; Rated Current: 2.18A
footprint WE-PD2_7850
simulation model 7850_744775112_12u
pins: 1, 2

## 744775115
designator L?, comment 15µH, 1.93A
WE-PD2 SMT Power Inductor, size 7850, 15µH, 1.93A, 0.044Ω; Manufacturer Part Number: 744775115; Manufacturer: Wurth Elektronik; Case/Size Code: 7850; Saturation Current @ 10%: 2.23A; Self Resonant Frequency: 20MHz; Category: Power Inductors; Match Code: WE-PD2; ComponentLink1Description: Website Link; ComponentLink1URL: https://www.we-online.com/redexpert/article/744775115?ad; ComponentLink2Description: Datasheet Link; ComponentLink2URL: https://www.we-online.com/redexpert/spec/744775115?ad; Mount: Surface Mount; Min Operating Temperature: -40°C; Max Operating Temperature: 125°C; Packaging: Tape and Reel; Length: 7.8mm; Width: 7mm; Height: 4.95mm; DC Resistance Max: 0.044Ω; Inductance: 15µH; Rated Current: 1.93A
footprint WE-PD2_7850
simulation model 7850_744775115_15u
pins: 1, 2

## 744775118
designator L?, comment 18µH, 1.89A
WE-PD2 SMT Power Inductor, size 7850, 18µH, 1.89A, 0.053Ω; Manufacturer Part Number: 744775118; Manufacturer: Wurth Elektronik; Case/Size Code: 7850; Saturation Current @ 10%: 2.14A; Self Resonant Frequency: 19MHz; Category: Power Inductors; Match Code: WE-PD2; ComponentLink1Description: Website Link; ComponentLink1URL: https://www.we-online.com/redexpert/article/744775118?ad; ComponentLink2Description: Datasheet Link; ComponentLink2URL: https://www.we-online.com/redexpert/spec/744775118?ad; Mount: Surface Mount; Min Operating Temperature: -40°C; Max Operating Temperature: 125°C; Packaging: Tape and Reel; Length: 7.8mm; Width: 7mm; Height: 4.95mm; DC Resistance Max: 0.053Ω; Inductance: 18µH; Rated Current: 1.89A
footprint WE-PD2_7850
simulation model 7850_744775118_18u
pins: 1, 2

## 744775122
designator L?, comment 22µH, 1.76A
WE-PD2 SMT Power Inductor, size 7850, 22µH, 1.76A, 0.065Ω; Manufacturer Part Number: 744775122; Manufacturer: Wurth Elektronik; Case/Size Code: 7850; Saturation Current @ 10%: 1.81A; Self Resonant Frequency: 17.5MHz; Category: Power Inductors; Match Code: WE-PD2; ComponentLink1Description: Website Link; ComponentLink1URL: https://www.we-online.com/redexpert/article/744775122?ad; ComponentLink2Description: Datasheet Link; ComponentLink2URL: https://www.we-online.com/redexpert/spec/744775122?ad; Mount: Surface Mount; Min Operating Temperature: -40°C; Max Operating Temperature: 125°C; Packaging: Tape and Reel; Length: 7.8mm; Width: 7mm; Height: 4.95mm; DC Resistance Max: 0.065Ω; Inductance: 22µH; Rated Current: 1.76A
footprint WE-PD2_7850
simulation model 7850_744775122_22u
pins: 1, 2

## 744775127
designator L?, comment 27µH, 1.48A
WE-PD2 SMT Power Inductor, size 7850, 27µH, 1.48A, 0.074Ω; Manufacturer Part Number: 744775127; Manufacturer: Wurth Elektronik; Case/Size Code: 7850; Saturation Current @ 10%: 1.62A; Self Resonant Frequency: 15.5MHz; Category: Power Inductors; Match Code: WE-PD2; ComponentLink1Description: Website Link; ComponentLink1URL: https://www.we-online.com/redexpert/article/744775127?ad; ComponentLink2Description: Datasheet Link; ComponentLink2URL: https://www.we-online.com/redexpert/spec/744775127?ad; Mount: Surface Mount; Min Operating Temperature: -40°C; Max Operating Temperature: 125°C; Packaging: Tape and Reel; Length: 7.8mm; Width: 7mm; Height: 4.95mm; DC Resistance Max: 0.074Ω; Inductance: 27µH; Rated Current: 1.48A
footprint WE-PD2_7850
simulation model 7850_744775127_27u
pins: 1, 2

## 744775133
designator L?, comment 33µH, 1.35A
WE-PD2 SMT Power Inductor, size 7850, 33µH, 1.35A, 0.088Ω; Manufacturer Part Number: 744775133; Manufacturer: Wurth Elektronik; Case/Size Code: 7850; Saturation Current @ 10%: 1.47A; Self Resonant Frequency: 14.5MHz; Category: Power Inductors; Match Code: WE-PD2; ComponentLink1Description: Website Link; ComponentLink1URL: https://www.we-online.com/redexpert/article/744775133?ad; ComponentLink2Description: Datasheet Link; ComponentLink2URL: https://www.we-online.com/redexpert/spec/744775133?ad; Mount: Surface Mount; Min Operating Temperature: -40°C; Max Operating Temperature: 125°C; Packaging: Tape and Reel; Length: 7.8mm; Width: 7mm; Height: 4.95mm; DC Resistance Max: 0.088Ω; Inductance: 33µH; Rated Current: 1.35A
footprint WE-PD2_7850
simulation model 7850_744775133_33u
pins: 1, 2

## 744775139
designator L?, comment 39µH, 1.25A
WE-PD2 SMT Power Inductor, size 7850, 39µH, 1.25A, 0.116Ω; Manufacturer Part Number: 744775139; Manufacturer: Wurth Elektronik; Case/Size Code: 7850; Saturation Current @ 10%: 1.33A; Self Resonant Frequency: 12.5MHz; Category: Power Inductors; Match Code: WE-PD2; ComponentLink1Description: Website Link; ComponentLink1URL: https://www.we-online.com/redexpert/article/744775139?ad; ComponentLink2Description: Datasheet Link; ComponentLink2URL: https://www.we-online.com/redexpert/spec/744775139?ad; Mount: Surface Mount; Min Operating Temperature: -40°C; Max Operating Temperature: 125°C; Packaging: Tape and Reel; Length: 7.8mm; Width: 7mm; Height: 4.95mm; DC Resistance Max: 0.116Ω; Inductance: 39µH; Rated Current: 1.25A
footprint WE-PD2_7850
simulation model 7850_744775139_39u
pins: 1, 2